# EAGLE library part RJ45-TRAFO (library con-amphenol-rj45-nzin)
RJ45 socket with integrated magnetics Naming: Amphenol LMJ1598824110DT39 TME RJ45-TRAFO Author: Petr Kalandra <mailto:kalandrap@gmail.com> Datasheet: http://zefiryn.tme.pl/dok/zlacza/rjtrafo.pdf
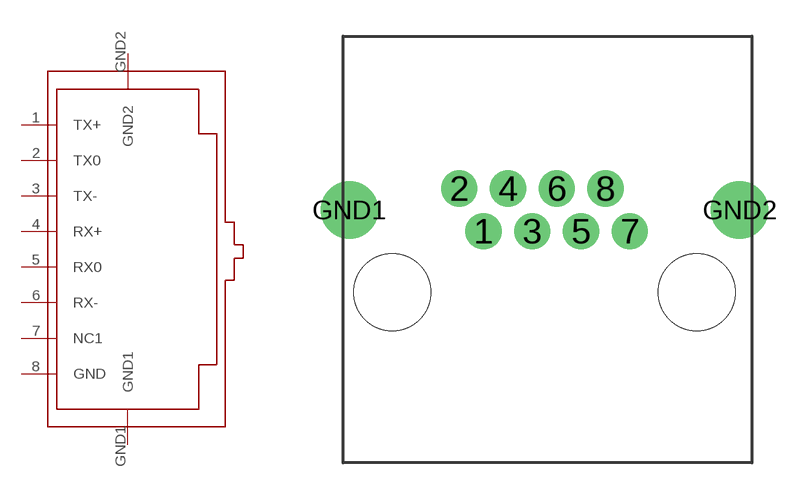
[diagram p1: symbol with the pads of RJ45-RJHSE5E8X; footprint RJ45-RJHSE5E8X]

Designator prefix -

## RJ45-TRAFO  [RJ45-RJHSE5E8X]
1  TX+
2  TX0
3  TX-
4  RX+
5  RX0
6  RX-
7  NC1  nc
8  GND  sup
GND1  GND1  sup
GND2  GND2  sup

## RJ45-TRAFORJ45-RJHSE5E80  [RJ45-RJHSE5E8X]

## Footprint RJ45-RJHSE5E8X (pad centres in mm)
RJ45 without LED pins
drill 1: 1 -3.048,2.032; 2 -4.064,3.81; 3 -1.016,2.032; 4 -2.032,3.81; 5 1.016,2.032; 6 0,3.81; 7 3.048,2.032; 8 2.032,3.81
drill 1.6: GND1 -8.636,2.921; GND2 7.62,2.921
hole 3.2 at -6.858,-0.508
hole 3.2 at 5.842,-0.508